# EAGLE library part PIC12F683 (library microchip-special)
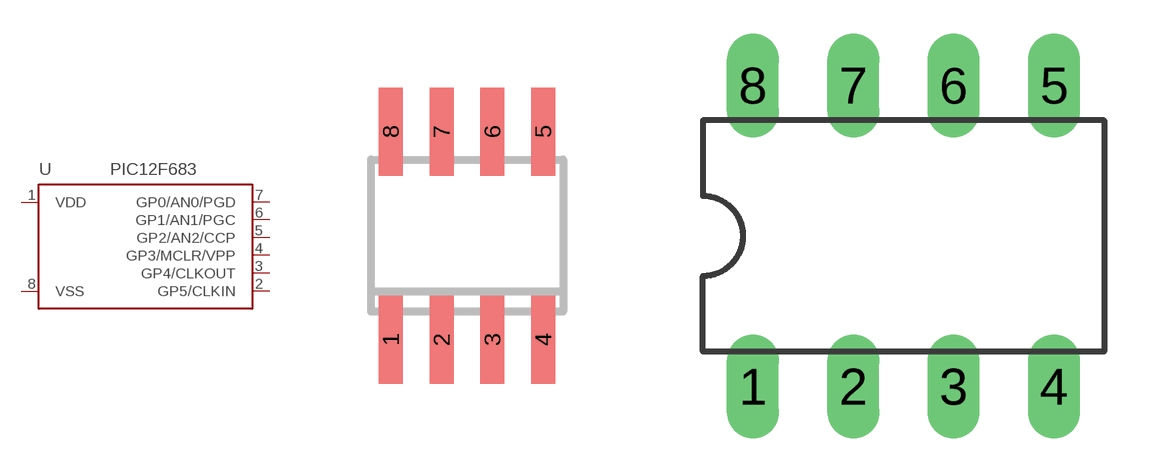
[diagram p7: symbol with the pads of SO08; footprints SO08, DIL08]

Designator prefix -

## PIC12F683SN  [SO08]
1  VDD  pwr
2  GP5/CLKIN
3  GP4/CLKOUT
4  GP3/MCLR/VPP  in
5  GP2/AN2/CCP
6  GP1/AN1/PGC
7  GP0/AN0/PGD
8  VSS  pwr

## PIC12F683P  [DIL08]
Pads as for SO08

## Footprint SO08 (pad centres in mm)
SMALL OUTLINE INTEGRATED CIRCUIT body 3.9 mm/JEDEC MS-012AA
smd 0.6 x 2.2: 1 -1.905,-2.6; 2 -0.635,-2.6; 3 0.635,-2.6; 4 1.905,-2.6; 5 1.905,2.6; 6 0.635,2.6; 7 -0.635,2.6; 8 -1.905,2.6

## Footprint DIL08 (pad centres in mm)
Dual In Line Package
drill 0.813 long: 1 -3.81,-3.81; 2 -1.27,-3.81; 3 1.27,-3.81; 4 3.81,-3.81; 5 3.81,3.81; 6 1.27,3.81; 7 -1.27,3.81; 8 -3.81,3.81